# Altium schematic symbol library ESP32_WROOM32.Schlib: 1 symbol
Pins are listed as number, name and electrical type; pins without a type are passive.

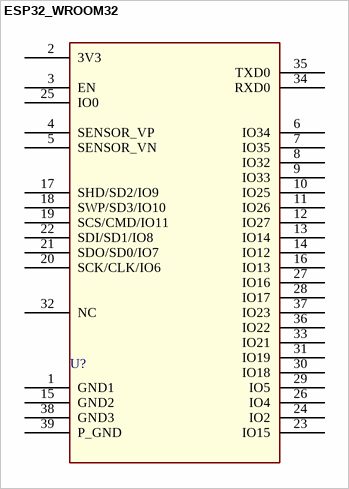
[diagram p0: symbol ESP32_WROOM32]

## ESP32_WROOM32
designator U?
WIFI Module WIFI Modules RoHS; ComponentLink1Description: LCSC - Espressif Systems ESP32-WROOM-32; ComponentLink1URL: https://lcsc.com/product-detail/WIFI-Modules_ESP-32S_C82899.html; LCSC Part #: C82899
footprint ESP32_WROVER
pins: 1 GND1, 2 3V3, 3 EN, 4 SENSOR_VP, 5 SENSOR_VN, 6 IO34, 7 IO35, 8 IO32, 9 IO33, 10 IO25, 11 IO26, 12 IO27, 13 IO14, 14 IO12, 15 GND2, 16 IO13, 17 SHD/SD2/IO9, 18 SWP/SD3/IO10, 19 SCS/CMD/IO11, 20 SCK/CLK/IO6, 21 SDO/SD0/IO7, 22 SDI/SD1/IO8, 23 IO15, 24 IO2, 25 IO0, 26 IO4, 27 IO16, 28 IO17, 29 IO5, 30 IO18, 31 IO19, 32 NC, 33 IO21, 34 RXD0, 35 TXD0, 36 IO22, 37 IO23, 38 GND3, 39 P_GND